# Altium schematic symbol library MANEA_TCAD_PROIECT_Schlib.SchLib: 23 symbols (part 2 of 2)
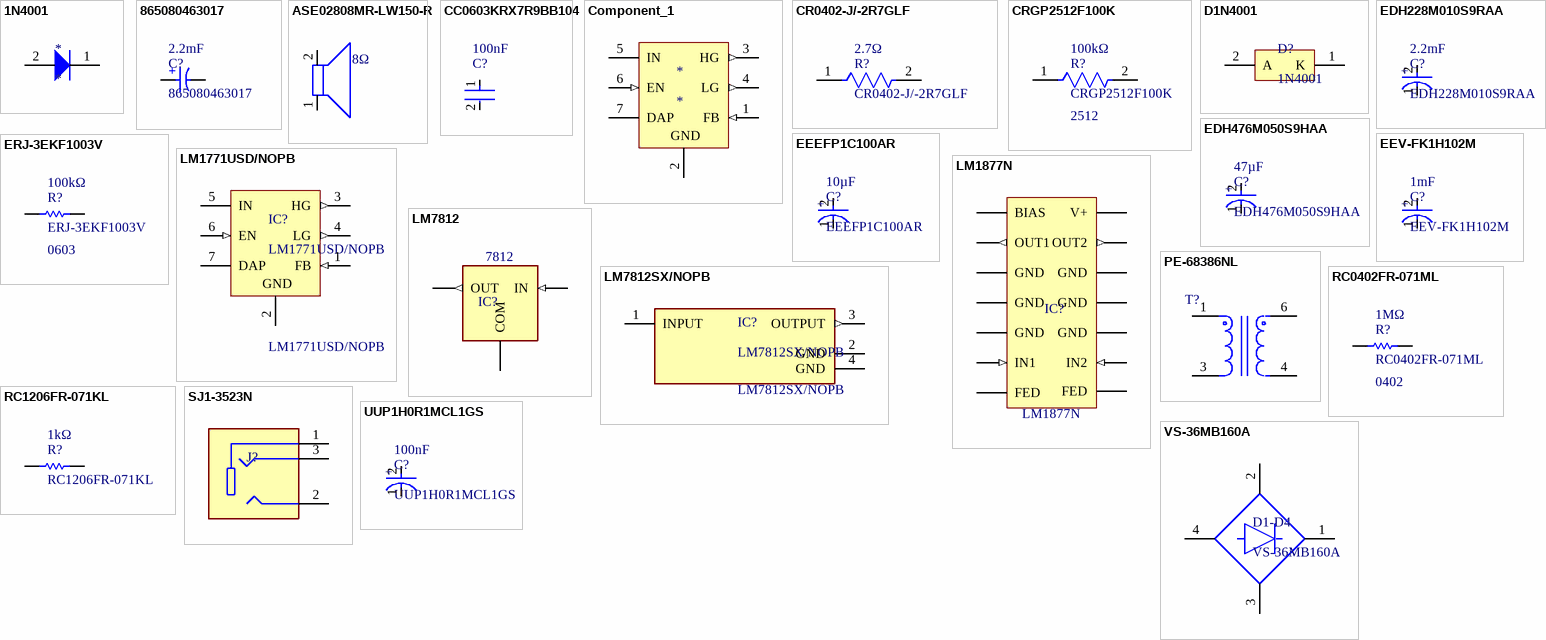
[diagram p1: symbols 1N4001 to VS-36MB160A]

## PE-68386NL
designator T?  (value not drawn)
Pulse Transformer 1: 1 1500VDC 0.6Ohm Prim. DCR 0.6Ohm Sec. DCR 6 Terminal SMD Automotive; Manufacturer: Yageo Group; DC Resistance (DCR): 600mΩ; Value: 785µH; Isolation Voltage: 1500Vrms; Number of Circuits: 1; Shielding: Unshielded; Turns Ratio: 1:1; Supplier: Farnell; Supplier Part Number: PE-68386NL; Manufacturer Part Number: PE-68386NL; RoHS: Compliant; Category: Transformers; Stock: 604; Pricing: 1=1, 10=8.84, 25=8.53, 50=7.92, 100=7.32, 500=7.16 (EUR); Case/Package: SMD/SMT; Country of Origin: Mainland China; Depth: 8.64mm; Export Control Classification Number (ECCN) Code: EAR99; Height: 2.5mm; Introduction Date: 1998-06-30; Length: 8.6mm; Lifecycle Status: Production; Max Operating Temperature: 130°C; Min Operating Temperature: -40°C; Mounting Technology: Surface Mount; Pins: 6; Radiation Hardening: No; REACH SVHC: Yes; Schedule B: 8504500000, 8504500000|8504500000, 8504500000|8504500000|8504500000, 8504500000|8504500000|8504500000|8504500000; Termination: SMD/SMT; Width: 6.7mm; ComponentLink1URL: https://datasheet.octopart.com:443/PE-68386NL-Pulse-datasheet-155502643.pdf?src-supplier=Upverter; ComponentLink1Description: https://datasheet.octopart.com:443/PE-68386NL-Pulse-datasheet-155502643.pdf?src-supplier=Upverter; ComponentLink2URL: https://datasheet.octopart.com:443/PE-68386NL-Pulse-datasheet-151940171.pdf?src-supplier=IHS; ComponentLink2Description: https://datasheet.octopart.com:443/PE-68386NL-Pulse-datasheet-151940171.pdf?src-supplier=IHS; ComponentLink3URL: https://datasheet.octopart.com:443/PE-68386NL-Pulse-datasheet-134530794.pdf?src-supplier=ODG+(Origin+Data+Global); ComponentLink3Description: https://datasheet.octopart.com:443/PE-68386NL-Pulse-datasheet-134530794.pdf?src-supplier=ODG+(Origin+Data+Global); ComponentLink4URL: https://datasheet.octopart.com:443/PE-68386NL-Pulse-datasheet-8399838.pdf?src-supplier=Factory+Futures; ComponentLink4Description: https://datasheet.octopart.com:443/PE-68386NL-Pulse-datasheet-8399838.pdf?src-supplier=Factory+Futures; ComponentLink5URL: https://datasheet.octopart.com:443/PE-68386NL-Pulse-datasheet-145346898.pdf?src-supplier=Future+Electronics; ComponentLink5Description: https://datasheet.octopart.com:443/PE-68386NL-Pulse-datasheet-145346898.pdf?src-supplier=Future+Electronics; ComponentLink6URL: http://sigma.octopart.com:80/conflict_mineral_statement/Yageo-company-3.pdf?src-supplier=Compliance+Statements; ComponentLink6Description: http://sigma.octopart.com:80/conflict_mineral_statement/Yageo-company-3.pdf?src-supplier=Compliance+Statements; ComponentLink7URL: http://sigma.octopart.com:80/rohs_statement/Yageo-company-2.pdf?src-supplier=Compliance+Statements; ComponentLink7Description: http://sigma.octopart.com:80/rohs_statement/Yageo-company-2.pdf?src-supplier=Compliance+Statements
footprint FP-PE-68386NL-MFG (Manea Transformator)
pins: 1, 3, 4, 6

## RC0402FR-071ML
designator R?  value 1MΩ  Case/Package: 0402
Res Thick Film 0402 1M Ohm 1% 0.063W(1/16W) ±100ppm/C Pad SMD T/R; Manufacturer: Yageo Group; Power Dissipation: 62.5mW; Power Rating: 63mW; Temperature Coefficient: 100ppm/°C; Voltage Rating: 50V; Supplier: Farnell; Manufacturer Part Number: RC0402FR-071ML; RoHS: Compliant; Category: Chip SMD Resistors; Stock: 1403147; Pricing: 10=10, 100=0.010, 500=0.010, 2500=0.010, 5000=0.010, 10000=0.010 (EUR); Case Code (Imperial): 0402; Case Code (Metric): 0402; China RoHS: Non-Compliant; Composition: Thick Film; Country of Origin: Mainland China, Taiwan; Depth: 500µm; Export Control Classification Number (ECCN) Code: EAR99; Height: 350µm; Harmonized Tariff Schedule (HTS) Code: 8533.21.00.30; Introduction Date: 2004-10-04; Lead Free: Lead Free; Length: 1mm; Lifecycle Status: Production; Max Operating Temperature: 155°C; Military Standard: Not; Min Operating Temperature: -55°C; Mounting Technology: Surface Mount; Pins: 2; Number of Terminals: 2; Packaging: Tape & Reel; REACH SVHC: Yes; Schedule B: 8533210045, 8533210045|8533210045|8533210045|8533210045|8533210045|8533210045|8533210045|8533210045|8533210045|8533210045|8533210045|8533210045|8533210045|8533210045|8533210045|8533210045|8533210045|8533210045|8533210045|8533210045|8533210045|8533210045|8533210045|85; Termination: SMD/SMT; Tolerance: 1%; Voltage Rating (AC): 50V; Voltage Rating (DC): 50V; Width: 500µm; Working Voltage: 50V; ComponentLink1URL: https://datasheet.octopart.com:443/RC0402FR-071ML-Yageo-datasheet-175887523.pdf?src-supplier=Newark; ComponentLink1Description: https://datasheet.octopart.com:443/RC0402FR-071ML-Yageo-datasheet-175887523.pdf?src-supplier=Newark; ComponentLink2URL: https://datasheet.octopart.com:443/RC0402FR-071ML-Yageo-Group-datasheet-190305687.pdf?src-supplier=Newark; ComponentLink2Description: https://datasheet.octopart.com:443/RC0402FR-071ML-Yageo-Group-datasheet-190305687.pdf?src-supplier=Newark; ComponentLink3URL: https://datasheet.octopart.com:443/RC0402FR-071ML-Yageo-datasheet-8324527.pdf?src-supplier=Newark; ComponentLink3Description: https://datasheet.octopart.com:443/RC0402FR-071ML-Yageo-datasheet-8324527.pdf?src-supplier=Newark; ComponentLink4URL: https://datasheet.octopart.com:443/RC0402FR-071ML-Yageo-datasheet-12531192.pdf?src-supplier=Newark; ComponentLink4Description: https://datasheet.octopart.com:443/RC0402FR-071ML-Yageo-datasheet-12531192.pdf?src-supplier=Newark; ComponentLink5URL: https://datasheet.octopart.com:443/RC0402FR-071ML-Yageo-datasheet-141265859.pdf?src-supplier=Newark; ComponentLink5Description: https://datasheet.octopart.com:443/RC0402FR-071ML-Yageo-datasheet-141265859.pdf?src-supplier=Newark; ComponentLink6URL: https://datasheet.octopart.com:443/RC0402FR-071ML-Yageo-datasheet-103092701.pdf?src-supplier=Upverter; ComponentLink6Description: https://datasheet.octopart.com:443/RC0402FR-071ML-Yageo-datasheet-103092701.pdf?src-supplier=Upverter; ComponentLink7URL: https://datasheet.octopart.com:443/RC0402FR-071ML-Yageo---Phycomp-datasheet-98239111.pdf?src-supplier=Upverter; ComponentLink7Description: https://datasheet.octopart.com:443/RC0402FR-071ML-Yageo---Phycomp-datasheet-98239111.pdf?src-supplier=Upverter; ComponentLink8URL: https://datasheet.octopart.com:443/RC0402FR-071ML-Yageo-datasheet-10408619.pdf?src-supplier=element14+APAC; ComponentLink8Description: https://datasheet.octopart.com:443/RC0402FR-071ML-Yageo-datasheet-10408619.pdf?src-supplier=element14+APAC; ComponentLink9URL: https://datasheet.octopart.com:443/RC0402FR-071ML-Yageo-datasheet-62067350.pdf?src-supplier=Farnell; ComponentLink9Description: https://datasheet.octopart.com:443/RC0402FR-071ML-Yageo-datasheet-62067350.pdf?src-supplier=Farnell; ComponentLink10URL: https://datasheet.octopart.com:443/RC0402FR-071ML-Yageo-datasheet-8329306.pdf?src-supplier=element14; ComponentLink10Description: https://datasheet.octopart.com:443/RC0402FR-071ML-Yageo-datasheet-8329306.pdf?src-supplier=element14; ComponentLink11URL: https://datasheet.octopart.com:443/RC0402FR-071ML-Yageo-Group-datasheet-176638170.pdf?src-supplier=Future+Electronics; ComponentLink11Description: https://datasheet.octopart.com:443/RC0402FR-071ML-Yageo-Group-datasheet-176638170.pdf?src-supplier=Future+Electronics; ComponentLink12URL: https://datasheet.octopart.com:443/RC0402FR-071ML-Yageo-datasheet-164759695.pdf?src-supplier=Future+Electronics; ComponentLink12Description: https://datasheet.octopart.com:443/RC0402FR-071ML-Yageo-datasheet-164759695.pdf?src-supplier=Future+Electronics; ComponentLink13URL: https://datasheet.octopart.com:443/RC0402FR-071ML-Yageo-datasheet-137700087.pdf?src-supplier=Future+Electronics; ComponentLink13Description: https://datasheet.octopart.com:443/RC0402FR-071ML-Yageo-datasheet-137700087.pdf?src-supplier=Future+Electronics; ComponentLink14URL: https://datasheet.octopart.com:443/RC0402FR-071ML-Yageo-datasheet-8324255.pdf?src-supplier=Future+Electronics; ComponentLink14Description: https://datasheet.octopart.com:443/RC0402FR-071ML-Yageo-datasheet-8324255.pdf?src-supplier=Future+Electronics; ComponentLink15URL: https://datasheet.octopart.com:443/RC0402FR-071ML-Yageo-datasheet-175423674.pdf?src-supplier=SOS+electronic; ComponentLink15Description: https://datasheet.octopart.com:443/RC0402FR-071ML-Yageo-datasheet-175423674.pdf?src-supplier=SOS+electronic; ComponentLink16URL: https://datasheet.octopart.com:443/RC0402FR-071ML-Yageo-datasheet-148775077.pdf?src-supplier=TME; ComponentLink16Description: https://datasheet.octopart.com:443/RC0402FR-071ML-Yageo-datasheet-148775077.pdf?src-supplier=TME; ComponentLink17URL: https://datasheet.octopart.com/RC0402FR-071ML-Yageo-datasheet-73766026.pdf; ComponentLink17Description: https://datasheet.octopart.com/RC0402FR-071ML-Yageo-datasheet-73766026.pdf; ComponentLink18URL: http://sigma.octopart.com:80/conflict_mineral_statement/Yageo-company-3.pdf?src-supplier=Compliance+Statements; ComponentLink18Description: http://sigma.octopart.com:80/conflict_mineral_statement/Yageo-company-3.pdf?src-supplier=Compliance+Statements; ComponentLink19URL: http://sigma.octopart.com:80/rohs_statement/Yageo-company-2.pdf?src-supplier=Compliance+Statements; ComponentLink19Description: http://sigma.octopart.com:80/rohs_statement/Yageo-company-2.pdf?src-supplier=Compliance+Statements; Supplier Part Number: RC0402FR-071ML
footprint RESC1005X40X25NL05T10 (Manea - Resistor 1MΩ (mid) Chip Resistor, 2-Leads, Body 1.00x0.50mm, IPC Medium Density)
footprint RESC1005X40X25ML05T10 (Manea - Resistor 1MΩ (small) Chip Resistor, 2-Leads, Body 1.00x0.50mm, IPC Low Density)
footprint RESC1005X40X25LL05T10 (Manea - Resistor 1MΩ (big) Chip Resistor, 2-Leads, Body 1.00x0.50mm, IPC High Density)
pins: 1, 2

## RC1206FR-071KL
designator R?  value 1kΩ
250mW Thick Film Resistors 200V ±100ppm/℃ ±1% 1kΩ 1206 Chip Resistor - Surface Mount ROHS; Manufacturer: Yageo Group; Temperature Coefficient: 100ppm/°C; Supplier: Farnell; Supplier Part Number: RC1206FR-071KL; Manufacturer Part Number: RC1206FR-071KL; RoHS: Compliant; Category: Chip SMD Resistors; Stock: 132012; Pricing: 500=500, 1000=0.05, 2500=0.05 (EUR); Case/Package: 1206; Case Code (Imperial): 1206; Case Code (Metric): 3216; China RoHS: Non-Compliant; Composition: Thick Film; Country of Origin: Mainland China, Taiwan; Depth: 1.6mm; Export Control Classification Number (ECCN) Code: EAR99; Height: 550µm; Harmonized Tariff Schedule (HTS) Code: 8533.21.00.30; Introduction Date: 2008-07-18; Lead Free: Lead Free; Length: 3.1mm; Lifecycle Status: Production; Max Operating Temperature: 155°C; Military Standard: Not; Min Operating Temperature: -55°C; Mounting Technology: Surface Mount; Pins: 2; Number of Terminals: 2; Packaging: Tape & Reel; Power Dissipation: 250mW; Power Rating: 250mW; REACH SVHC: Yes; Schedule B: 8533210045, 8533210045|8533210045, 8533210045|8533210045|8533210045, 8533210045|8533210045|8533210045|8533210045; Termination: SMD/SMT; Tolerance: 1%; Voltage Rating: 200V; Voltage Rating (AC): 200V; Voltage Rating (DC): 200V; Width: 1.6mm; Working Voltage: 200V; ComponentLink1URL: https://datasheet.octopart.com:443/RC1206FR-071KL-Yageo-datasheet-175887523.pdf?src-supplier=Newark; ComponentLink1Description: https://datasheet.octopart.com:443/RC1206FR-071KL-Yageo-datasheet-175887523.pdf?src-supplier=Newark; ComponentLink2URL: https://datasheet.octopart.com:443/RC1206FR-071KL-Yageo-datasheet-103092701.pdf?src-supplier=Upverter; ComponentLink2Description: https://datasheet.octopart.com:443/RC1206FR-071KL-Yageo-datasheet-103092701.pdf?src-supplier=Upverter; ComponentLink3URL: https://datasheet.octopart.com:443/RC1206FR-071KL-Yageo-datasheet-98239111.pdf?src-supplier=Upverter; ComponentLink3Description: https://datasheet.octopart.com:443/RC1206FR-071KL-Yageo-datasheet-98239111.pdf?src-supplier=Upverter; ComponentLink4URL: https://datasheet.octopart.com:443/RC1206FR-071KL-Yageo-datasheet-8359522.pdf?src-supplier=element14+APAC; ComponentLink4Description: https://datasheet.octopart.com:443/RC1206FR-071KL-Yageo-datasheet-8359522.pdf?src-supplier=element14+APAC; ComponentLink5URL: https://datasheet.octopart.com:443/RC1206FR-071KL-Yageo-datasheet-13032847.pdf?src-supplier=element14+APAC; ComponentLink5Description: https://datasheet.octopart.com:443/RC1206FR-071KL-Yageo-datasheet-13032847.pdf?src-supplier=element14+APAC; ComponentLink6URL: https://datasheet.octopart.com:443/RC1206FR-071KL-Yageo-datasheet-62067350.pdf?src-supplier=Farnell; ComponentLink6Description: https://datasheet.octopart.com:443/RC1206FR-071KL-Yageo-datasheet-62067350.pdf?src-supplier=Farnell; ComponentLink7URL: https://datasheet.octopart.com:443/RC1206FR-071KL-Yageo-Group-datasheet-176638170.pdf?src-supplier=Future+Electronics; ComponentLink7Description: https://datasheet.octopart.com:443/RC1206FR-071KL-Yageo-Group-datasheet-176638170.pdf?src-supplier=Future+Electronics; ComponentLink8URL: https://datasheet.octopart.com:443/RC1206FR-071KL-Yageo-datasheet-164759695.pdf?src-supplier=Future+Electronics; ComponentLink8Description: https://datasheet.octopart.com:443/RC1206FR-071KL-Yageo-datasheet-164759695.pdf?src-supplier=Future+Electronics; ComponentLink9URL: https://datasheet.octopart.com:443/RC1206FR-071KL-Yageo-datasheet-137700087.pdf?src-supplier=Future+Electronics; ComponentLink9Description: https://datasheet.octopart.com:443/RC1206FR-071KL-Yageo-datasheet-137700087.pdf?src-supplier=Future+Electronics; ComponentLink10URL: https://datasheet.octopart.com:443/RC1206FR-071KL-Yageo-datasheet-27233761.pdf?src-supplier=Future+Electronics; ComponentLink10Description: https://datasheet.octopart.com:443/RC1206FR-071KL-Yageo-datasheet-27233761.pdf?src-supplier=Future+Electronics; ComponentLink11URL: https://datasheet.octopart.com:443/RC1206FR-071KL-Yageo-datasheet-8324387.pdf?src-supplier=Future+Electronics; ComponentLink11Description: https://datasheet.octopart.com:443/RC1206FR-071KL-Yageo-datasheet-8324387.pdf?src-supplier=Future+Electronics; ComponentLink12URL: https://datasheet.octopart.com:443/RC1206FR-071KL-Yageo-datasheet-79472498.pdf?src-supplier=Megastar; ComponentLink12Description: https://datasheet.octopart.com:443/RC1206FR-071KL-Yageo-datasheet-79472498.pdf?src-supplier=Megastar; ComponentLink13URL: https://datasheet.octopart.com/RC1206FR-071KL-Yageo-datasheet-73766026.pdf; ComponentLink13Description: https://datasheet.octopart.com/RC1206FR-071KL-Yageo-datasheet-73766026.pdf; ComponentLink14URL: https://datasheet.octopart.com:443/RC1206FR-071KL-Yageo-datasheet-118639.pdf?src-supplier=DigiKey; ComponentLink14Description: https://datasheet.octopart.com:443/RC1206FR-071KL-Yageo-datasheet-118639.pdf?src-supplier=DigiKey; ComponentLink15URL: http://sigma.octopart.com:80/conflict_mineral_statement/Yageo-company-3.pdf?src-supplier=Compliance+Statements; ComponentLink15Description: http://sigma.octopart.com:80/conflict_mineral_statement/Yageo-company-3.pdf?src-supplier=Compliance+Statements; ComponentLink16URL: http://sigma.octopart.com:80/rohs_statement/Yageo-company-2.pdf?src-supplier=Compliance+Statements; ComponentLink16Description: http://sigma.octopart.com:80/rohs_statement/Yageo-company-2.pdf?src-supplier=Compliance+Statements
footprint RESC3116X65X40NL10T20 (Manea - Resistor 1kΩ (mid) Chip Resistor, 2-Leads, Body 3.10x1.60mm, IPC Medium Density)
footprint RESC3116X65X40ML10T20 (Manea - Resistor 1kΩ (small)Chip Resistor, 2-Leads, Body 3.10x1.60mm, IPC Low Density)
footprint RESC3116X65X40LL10T20 (Manea - Resistor 1kΩ (big) Chip Resistor, 2-Leads, Body 3.10x1.60mm, IPC High Density)
pins: 1, 2

## SJ1-3523N
designator J?  (value not drawn)
3.5 mm, Stereo, Right Angle, Through Hole, Audio Jack Connector; Manufacturer: Same Sky; Contact Resistance: 50mΩ; Current Rating: 1A; Insulation Resistance: 100MΩ; Number of Conductors: 3; Number of Ports: 1; Operating Force: 29.42N; Shielding: Unshielded; Voltage Rating: 12V; Supplier: Arrow Electronics; Supplier Part Number: SJ1-3523N; Manufacturer Part Number: SJ1-3523N; RoHS: Compliant; Category: Audio / Video Connectors; Stock: 4186; Pricing: 186=0.5385, 280=0.5263, 560=0.521, 1120=0.5158, 2520=0.5106 (USD); Contact Gender: Female; Export Control Classification Number (ECCN) Code: EAR99; Harmonized Tariff Schedule (HTS) Code: 8536.69.40.10; Introduction Date: 2013-12-05; Lifecycle Status: Production; Max Operating Temperature: 85°C; Min Operating Temperature: -25°C; Mounting Technology: Through Hole; Pins: 3; Number of Poles: 3; REACH SVHC: Yes; Shell Finish: Nickel; Shell Material: Brass; ComponentLink1URL: https://datasheet.octopart.com:443/SJ1-3523N-Same-Sky-datasheet-188842965.pdf?src-supplier=Same+Sky; ComponentLink1Description: https://datasheet.octopart.com:443/SJ1-3523N-Same-Sky-datasheet-188842965.pdf?src-supplier=Same+Sky; ComponentLink2URL: https://datasheet.octopart.com:443/SJ1-3523N-Same-Sky-datasheet-181919365.pdf?src-supplier=Same+Sky; ComponentLink2Description: https://datasheet.octopart.com:443/SJ1-3523N-Same-Sky-datasheet-181919365.pdf?src-supplier=Same+Sky; ComponentLink3URL: https://datasheet.octopart.com:443/SJ1-3523N-Same-Sky-datasheet-181919366.pdf?src-supplier=Same+Sky; ComponentLink3Description: https://datasheet.octopart.com:443/SJ1-3523N-Same-Sky-datasheet-181919366.pdf?src-supplier=Same+Sky; ComponentLink4URL: https://datasheet.octopart.com:443/SJ1-3523N-CUI-Devices-datasheet-175925037.pdf?src-supplier=Same+Sky; ComponentLink4Description: https://datasheet.octopart.com:443/SJ1-3523N-CUI-Devices-datasheet-175925037.pdf?src-supplier=Same+Sky; ComponentLink5URL: https://datasheet.octopart.com:443/SJ1-3523N-CUI-Devices-datasheet-137944680.pdf?src-supplier=Same+Sky; ComponentLink5Description: https://datasheet.octopart.com:443/SJ1-3523N-CUI-Devices-datasheet-137944680.pdf?src-supplier=Same+Sky; ComponentLink6URL: https://datasheet.octopart.com:443/SJ1-3523N-CUI-Devices-datasheet-180438157.pdf?src-supplier=IHS; ComponentLink6Description: https://datasheet.octopart.com:443/SJ1-3523N-CUI-Devices-datasheet-180438157.pdf?src-supplier=IHS; ComponentLink7URL: https://datasheet.octopart.com:443/SJ1-3523N-Same-Sky-datasheet-190142061.pdf?src-supplier=element14+APAC; ComponentLink7Description: https://datasheet.octopart.com:443/SJ1-3523N-Same-Sky-datasheet-190142061.pdf?src-supplier=element14+APAC; ComponentLink8URL: https://datasheet.octopart.com:443/SJ1-3523N-Same-Sky-datasheet-182881325.pdf?src-supplier=Electro+Sonic; ComponentLink8Description: https://datasheet.octopart.com:443/SJ1-3523N-Same-Sky-datasheet-182881325.pdf?src-supplier=Electro+Sonic; ComponentLink9URL: https://datasheet.octopart.com:443/SJ1-3523N-CUI-Devices-datasheet-103114031.pdf?src-supplier=Master+Electronics; ComponentLink9Description: https://datasheet.octopart.com:443/SJ1-3523N-CUI-Devices-datasheet-103114031.pdf?src-supplier=Master+Electronics; ComponentLink10URL: https://datasheet.octopart.com:443/SJ1-3523N-Same-Sky-datasheet-189105612.pdf?src-supplier=Master+Electronics; ComponentLink10Description: https://datasheet.octopart.com:443/SJ1-3523N-Same-Sky-datasheet-189105612.pdf?src-supplier=Master+Electronics; ComponentLink11URL: https://datasheet.octopart.com:443/SJ1-3523N-Same-Sky-datasheet-182050170.pdf?src-supplier=Future+Electronics; ComponentLink11Description: https://datasheet.octopart.com:443/SJ1-3523N-Same-Sky-datasheet-182050170.pdf?src-supplier=Future+Electronics; ComponentLink12URL: https://datasheet.octopart.com:443/SJ1-3523N-CUI-Devices-datasheet-179174321.pdf?src-supplier=Future+Electronics; ComponentLink12Description: https://datasheet.octopart.com:443/SJ1-3523N-CUI-Devices-datasheet-179174321.pdf?src-supplier=Future+Electronics; ComponentLink13URL: https://datasheet.octopart.com:443/SJ1-3523N-CUI-Devices-datasheet-175923655.pdf?src-supplier=Future+Electronics; ComponentLink13Description: https://datasheet.octopart.com:443/SJ1-3523N-CUI-Devices-datasheet-175923655.pdf?src-supplier=Future+Electronics; ComponentLink14URL: https://datasheet.octopart.com:443/SJ1-3523N-CUI-Devices-datasheet-137916565.pdf?src-supplier=Future+Electronics; ComponentLink14Description: https://datasheet.octopart.com:443/SJ1-3523N-CUI-Devices-datasheet-137916565.pdf?src-supplier=Future+Electronics; ComponentLink15URL: https://datasheet.octopart.com:443/SJ1-3523N-CUI-Devices-datasheet-175927865.pdf?src-supplier=CUI+Devices+SCT; ComponentLink15Description: https://datasheet.octopart.com:443/SJ1-3523N-CUI-Devices-datasheet-175927865.pdf?src-supplier=CUI+Devices+SCT; ComponentLink16URL: https://datasheet.octopart.com:443/SJ1-3523N-CUI-Devices-datasheet-142371563.pdf?src-supplier=CUI+Devices+SCT; ComponentLink16Description: https://datasheet.octopart.com:443/SJ1-3523N-CUI-Devices-datasheet-142371563.pdf?src-supplier=CUI+Devices+SCT; ComponentLink17URL: https://octopart.com:443/opatz8j6/c1?t=gjuFzP5FeJ83X9cwTGu2sEmmwJClMyKvRq31tK1ghiwMfaJiNfVooFEWA3NKcPKyVTi3TopjWN7_jVNemsgZYLBGcTysez8j3ooErhfGEpaGvYXTm46f2XKwF5AUrG3oakeW1EITrY-RgczLpEkf621pOmzGdcrBuo_fTY8P93EKEICRE_pTxQzimOUyEadwLjpAytiZue2sdnG9_08Nr5BHHxjjNOe--5RGBswLz9oJptexyQGuRjBmjD9nyt9tPx4AxWVkug0cZeRbY05jbZASdtPt6-WktcXXJ7Li33icjQZem-hXhaL2R0u0Af73md00k_u0irKwzPj4eC0junqs0zkurYeIpEBCFnbg&src-supplier=Compliance+Statements; ComponentLink17Description: https://octopart.com:443/opatz8j6/c1?t=gjuFzP5FeJ83X9cwTGu2sEmmwJClMyKvRq31tK1ghiwMfaJiNfVooFEWA3NKcPKyVTi3TopjWN7_jVNemsgZYLBGcTysez8j3ooErhfGEpaGvYXTm46f2XKwF5AUrG3oakeW1EITrY-RgczLpEkf621pOmzGdcrBuo_fTY8P93EKEICRE_pTxQzimOUyEadwLjpAytiZue2sdnG9_08Nr5BHHxjjNOe--5RGBswLz9oJptexyQGuRjBmjD9nyt9tPx4AxWVkug0cZeRbY05jbZASdtPt6-WktcXXJ7Li33icjQZem-hXhaL2R0u0Af73md00k_u0irKwzPj4eC0junqs0zkurYeIpEBCFnbg&src-supplier=Compliance+Statements; ComponentLink18URL: https://octopart.com:443/opatz8j6/c1?t=FK_WB5MEeg8e3hchiUFLufnmrXjWfPns_31GAxOxSz5XCu7Mx54RJmU8oWMVHzsQDHhVfL6sbpf8_NglWXW47YlrGWvjCIcYCwBgGax26lgPQP7ePVnUIuxTSbRF0WS-6Nsk4c6CYYrZ3tinGlSI5arQThC3cXIqlveG9Ik5qLNagbrnaAXootczi_mrI3vsNqx9WMqOLxXIFI4-vrFzhJlVucQLREwoWmYqkSPYLuQ3--heFvxW44gPWJaFS9ZBQLJofzqBGReJxXS-DgOgjl2bCuYmuX6dX4q51Wsnv4hQ3w_hAUVVOW1quancvtOtLktylFp-nv9BlBEi-vqz9ne94H7vkARog4eX&src-supplier=Compliance+Statements; ComponentLink18Description: https://octopart.com:443/opatz8j6/c1?t=FK_WB5MEeg8e3hchiUFLufnmrXjWfPns_31GAxOxSz5XCu7Mx54RJmU8oWMVHzsQDHhVfL6sbpf8_NglWXW47YlrGWvjCIcYCwBgGax26lgPQP7ePVnUIuxTSbRF0WS-6Nsk4c6CYYrZ3tinGlSI5arQThC3cXIqlveG9Ik5qLNagbrnaAXootczi_mrI3vsNqx9WMqOLxXIFI4-vrFzhJlVucQLREwoWmYqkSPYLuQ3--heFvxW44gPWJaFS9ZBQLJofzqBGReJxXS-DgOgjl2bCuYmuX6dX4q51Wsnv4hQ3w_hAUVVOW1quancvtOtLktylFp-nv9BlBEi-vqz9ne94H7vkARog4eX&src-supplier=Compliance+Statements; ComponentLink19URL: https://octopart.com:443/opatz8j6/c1?t=UdIpGBcksFMbyudDRCHU_cM4VUqfRdaD9F0GIXHSdxGioLaqUbbj5soB0Lg_i9Le1gzib9ZjKQgBK4iE-j6DgrULbk6LjM663-xmUcWGM4Ya9FvNt2cmxcyNinrQ5ZBPyY5bu4RoQeVMp19Io0LziUfQXBaMG81yX2Qgy7rm_o7yZdT82mfh7U3A6q7SJxIqB7I7ZbQfC5CabIjoAbjznbQrH1ozzyaeiQXVL_6geplWzkdIi5w2dHDvFVp-IGUN90e2klKnP2A_Ai5F6BLf3IjGe8Zjo2r6t-LDgqKHNYw3iDHugYaVHNcStOHFhZFC-2WwucY-mGkN9-fcAqr1fA9RpMNns50&src-supplier=Compliance+Statements; ComponentLink19Description: https://octopart.com:443/opatz8j6/c1?t=UdIpGBcksFMbyudDRCHU_cM4VUqfRdaD9F0GIXHSdxGioLaqUbbj5soB0Lg_i9Le1gzib9ZjKQgBK4iE-j6DgrULbk6LjM663-xmUcWGM4Ya9FvNt2cmxcyNinrQ5ZBPyY5bu4RoQeVMp19Io0LziUfQXBaMG81yX2Qgy7rm_o7yZdT82mfh7U3A6q7SJxIqB7I7ZbQfC5CabIjoAbjznbQrH1ozzyaeiQXVL_6geplWzkdIi5w2dHDvFVp-IGUN90e2klKnP2A_Ai5F6BLf3IjGe8Zjo2r6t-LDgqKHNYw3iDHugYaVHNcStOHFhZFC-2WwucY-mGkN9-fcAqr1fA9RpMNns50&src-supplier=Compliance+Statements; ComponentLink20URL: https://octopart.com:443/opatz8j6/c1?t=pDg1b1pYhpzqU392vJ_Jb3HLHPPzL0sAM5iyDHTPCetBcv_Sp1d-hJNQ556zVr5CdDNtNnZDeT9UXiVgAY5S64M-JSURvz-uorpDhlHE8t-NqIP0C6funSUuJTALTwKEJ_63uBUFx6mOoaK7PcASKHZ5FUs2Eanv8BS0GHxdibUAf2RceAXHkxwb2tLftSdnLjUq3WIVWvGyaOXA152k5sLcWrVPe37TXyhtlruGxJ-oGWaHmv_rm21DomcvISw5LsSS6OYGOZPVpG2uGYGgsGXwC0kLCw0NRQ_8r5isbCv0nrOWO727JWoEjEl5igJPqhucFWm0rj7fGTRzHNPtvFZjRbxEkRX6NoLHgIlI&src-supplier=Compliance+Statements; ComponentLink20Description: https://octopart.com:443/opatz8j6/c1?t=pDg1b1pYhpzqU392vJ_Jb3HLHPPzL0sAM5iyDHTPCetBcv_Sp1d-hJNQ556zVr5CdDNtNnZDeT9UXiVgAY5S64M-JSURvz-uorpDhlHE8t-NqIP0C6funSUuJTALTwKEJ_63uBUFx6mOoaK7PcASKHZ5FUs2Eanv8BS0GHxdibUAf2RceAXHkxwb2tLftSdnLjUq3WIVWvGyaOXA152k5sLcWrVPe37TXyhtlruGxJ-oGWaHmv_rm21DomcvISw5LsSS6OYGOZPVpG2uGYGgsGXwC0kLCw0NRQ_8r5isbCv0nrOWO727JWoEjEl5igJPqhucFWm0rj7fGTRzHNPtvFZjRbxEkRX6NoLHgIlI&src-supplier=Compliance+Statements; ComponentLink21URL: https://octopart.com:443/opatz8j6/c1?t=7vmJb-KgeebzF6ID3bFFwvqYryya2RktZyo-G2sT8rG6SRJyz16kOmaQ2ou6ab3xMPo5npRScceIiW07oDQ1f5JfhRkWb9_Y_6rCSDi_uNFhA6f9GIb9pNI00QkWPpkHkPf6vGHxDv5mUr8xCnFeDJMGnT5pJSW73Anww1ZNZ5YNBfaYDFRkWL08Fvbhf9VcmV8pSucmne1PHtxIs5zkCCqmelimsIXrz0uwMxahLOjitLj_9e_e1AOmWQ-ZYvwc17tVkBLVsZjK0aJCdNSugvk6xn_3gwZvuZo6Vqs_B5XwRxnkJ_GY4dJySkj0Gh5tVNccPYw3GObpftcvwec0lfkUKHKNdrMy6Lc8&src-supplier=Compliance+Statements; ComponentLink21Description: https://octopart.com:443/opatz8j6/c1?t=7vmJb-KgeebzF6ID3bFFwvqYryya2RktZyo-G2sT8rG6SRJyz16kOmaQ2ou6ab3xMPo5npRScceIiW07oDQ1f5JfhRkWb9_Y_6rCSDi_uNFhA6f9GIb9pNI00QkWPpkHkPf6vGHxDv5mUr8xCnFeDJMGnT5pJSW73Anww1ZNZ5YNBfaYDFRkWL08Fvbhf9VcmV8pSucmne1PHtxIs5zkCCqmelimsIXrz0uwMxahLOjitLj_9e_e1AOmWQ-ZYvwc17tVkBLVsZjK0aJCdNSugvk6xn_3gwZvuZo6Vqs_B5XwRxnkJ_GY4dJySkj0Gh5tVNccPYw3GObpftcvwec0lfkUKHKNdrMy6Lc8&src-supplier=Compliance+Statements; ComponentLink22URL: https://octopart.com:443/opatz8j6/c1?t=Un2tl9Nj9bSvzM7IKxJOdyIGf7L8C2-5kvYpunEZrdGSfiMO37fbS_I13rKkj5ham76OVsj54G2v97kMRcXuqb_kSMGoGiy93NryKqHZFqa8OCzokOfsjonKJ12Uuy0YHRmbezol8y4EjYZmx0TMFsWAPZBqPbeTctZo3-o-Br2JroDvYQTJwDskX6QIshJSBSA9uFUYc2RGP2Ytj2OZERSo9sD3NXytpuLuZ8C65mZ-vr0hF3yAnYySSV9fn-2l-pztLjEEm120s6sy5-svJ-xc3PuN0oLaUwllU_tTQMlPAaspxnvPl1Gpyn9Wz4Y_A71_fe4q9m_M4dKufVtGvRSOa7MFhcE&src-supplier=Compliance+Statements; ComponentLink22Description: https://octopart.com:443/opatz8j6/c1?t=Un2tl9Nj9bSvzM7IKxJOdyIGf7L8C2-5kvYpunEZrdGSfiMO37fbS_I13rKkj5ham76OVsj54G2v97kMRcXuqb_kSMGoGiy93NryKqHZFqa8OCzokOfsjonKJ12Uuy0YHRmbezol8y4EjYZmx0TMFsWAPZBqPbeTctZo3-o-Br2JroDvYQTJwDskX6QIshJSBSA9uFUYc2RGP2Ytj2OZERSo9sD3NXytpuLuZ8C65mZ-vr0hF3yAnYySSV9fn-2l-pztLjEEm120s6sy5-svJ-xc3PuN0oLaUwllU_tTQMlPAaspxnvPl1Gpyn9Wz4Y_A71_fe4q9m_M4dKufVtGvRSOa7MFhcE&src-supplier=Compliance+Statements
footprint CUI_SJ1-3523N (Manea - Stereo jack)
pins: 1, 2, 3

## UUP1H0R1MCL1GS
designator C?  value 100nF
Radial Can - SMD ALUMINUM ELECTROLYTIC CAPACITOR UUP 50V 0.1muF ±20% 0.157Dia 4.00mm; Manufacturer: Nichicon; Dissipation Factor: 15%; Leakage Current: 250nA; Life (Hours): 1000hours; Ripple Current: 1mA; Supplier: DigiKey; Supplier Part Number: 493-9552-1-ND; Manufacturer Part Number: UUP1H0R1MCL1GS; RoHS: Compliant; Category: Aluminum Electrolytic Capacitors; Stock: 53977; Pricing: 1=0.72, 10=0.449, 50=0.3376, 100=0.3019, 500=0.24014, 1000=0.22065 (USD); Case/Package: Radial; China RoHS: Compliant; Country of Origin: Japan; Diameter: 4mm; Export Control Classification Number (ECCN) Code: EAR99; Height: 5.8mm; Height - Seated (Max): 3.9878mm; Harmonized Tariff Schedule (HTS) Code: 8532.22.00; Introduction Date: 2004-09-15; Length: 4.3mm; Lifecycle Status: Production; Max Operating Temperature: 105°C; Min Operating Temperature: -55°C; Mounting Technology: Surface Mount; Number of Terminals: 2; Radiation Hardening: No; REACH SVHC: No; Ripple Current (AC): 1mA; Schedule B: 8532220020, 8532220020|8532220020|8532220020|8532220020|8532220020; Termination: SMD/SMT; Tolerance: 20%; Voltage Rating: 50V; Voltage Rating (DC): 50V; Width: 4.3mm; ComponentLink1URL: https://datasheet.octopart.com:443/UUP1H0R1MCL1GS-Nichicon-datasheet-169479677.pdf?src-supplier=IHS; ComponentLink1Description: https://datasheet.octopart.com:443/UUP1H0R1MCL1GS-Nichicon-datasheet-169479677.pdf?src-supplier=IHS; ComponentLink2URL: https://datasheet.octopart.com:443/UUP1H0R1MCL1GS-Nichicon-datasheet-141895065.pdf?src-supplier=Nichicon+SCT; ComponentLink2Description: https://datasheet.octopart.com:443/UUP1H0R1MCL1GS-Nichicon-datasheet-141895065.pdf?src-supplier=Nichicon+SCT; ComponentLink3URL: https://sigma.octopart.com:443/138706034/technical_drawing/Nichicon-UUP1H0R1MCL1GS.pdf?src-supplier=Upverter; ComponentLink3Description: https://sigma.octopart.com:443/138706034/technical_drawing/Nichicon-UUP1H0R1MCL1GS.pdf?src-supplier=Upverter; ComponentLink4URL: https://datasheet.octopart.com:443/UUP1H0R1MCL1GS-Nichicon-datasheet-182862066.pdf?src-supplier=Newark; ComponentLink4Description: https://datasheet.octopart.com:443/UUP1H0R1MCL1GS-Nichicon-datasheet-182862066.pdf?src-supplier=Newark; ComponentLink5URL: https://datasheet.octopart.com:443/UUP1H0R1MCL1GS-Nichicon-datasheet-21209828.pdf?src-supplier=Newark; ComponentLink5Description: https://datasheet.octopart.com:443/UUP1H0R1MCL1GS-Nichicon-datasheet-21209828.pdf?src-supplier=Newark
footprint FP-UUP1H0R1MCL1GS-MFG (Manea Cap - 100nf)
pins: 1 C, 2 A
text: +

## VS-36MB160A
designator D1-D4
Diode, Bridge Rectifier, Vr 1600V, If 35A, Pkg D-34, Vf 1.3V, VS-36MB Series; Manufacturer: Vishay; Element Configuration: Single; Max Forward Surge Current (Ifsm): 500A; Max Repetitive Reverse Voltage (Vrrm): 1.6kV; Max Surge Current: 155A; Nominal Supply Voltage: 1.13kV; Number of Elements: 4; Peak Reverse Current: 10µA; Supplier: Farnell; Supplier Part Number: VS-36MB160A; Manufacturer Part Number: VS-36MB160A; RoHS: Compliant; Category: Bridge Rectifier Diodes; Stock: 238; Pricing: 1=1, 5=55.37, 10=40.64, 50=39.37, 100=38.05, 250=37.29 (EUR); Case/Package: D; Contact Plating: Nickel; Export Control Classification Number (ECCN) Code: EAR99; Forward Current: 35A; Forward Voltage: 1.3V; Height: 9.8mm; Harmonized Tariff Schedule (HTS) Code: 8541.10.00.80; Introduction Date: 2013-10-29; Length: 28.5mm; Lifecycle Status: Production; Max Operating Temperature: 150°C; Max Output current: 35A; Min Operating Temperature: -55°C; Mounting Technology: Screw, Through Hole; Pins: 4; Number of Terminals: 4; Peak Non-Repetitive Surge Current: 500A; Radiation Hardening: No; REACH SVHC: No; Reverse Standoff Voltage: 1.6kV; Weight: 19.999993g; ComponentLink1URL: https://datasheet.octopart.com:443/VS-36MB160A-Vishay-datasheet-167934344.pdf?src-supplier=Newark; ComponentLink1Description: https://datasheet.octopart.com:443/VS-36MB160A-Vishay-datasheet-167934344.pdf?src-supplier=Newark; ComponentLink2URL: https://datasheet.octopart.com:443/VS-36MB160A-Vishay-datasheet-34179020.pdf?src-supplier=Newark; ComponentLink2Description: https://datasheet.octopart.com:443/VS-36MB160A-Vishay-datasheet-34179020.pdf?src-supplier=Newark; ComponentLink3URL: https://datasheet.octopart.com:443/VS-36MB160A-Vishay-datasheet-105827.pdf?src-supplier=Newark; ComponentLink3Description: https://datasheet.octopart.com:443/VS-36MB160A-Vishay-datasheet-105827.pdf?src-supplier=Newark; ComponentLink4URL: https://datasheet.octopart.com:443/VS-36MB160A-Vishay-datasheet-78835536.pdf?src-supplier=element14+APAC; ComponentLink4Description: https://datasheet.octopart.com:443/VS-36MB160A-Vishay-datasheet-78835536.pdf?src-supplier=element14+APAC; ComponentLink5URL: https://datasheet.octopart.com:443/VS-36MB160A-Vishay-datasheet-62319662.pdf?src-supplier=element14+APAC; ComponentLink5Description: https://datasheet.octopart.com:443/VS-36MB160A-Vishay-datasheet-62319662.pdf?src-supplier=element14+APAC; ComponentLink6URL: https://datasheet.octopart.com:443/VS-36MB160A-Vishay-datasheet-21423584.pdf?src-supplier=Farnell; ComponentLink6Description: https://datasheet.octopart.com:443/VS-36MB160A-Vishay-datasheet-21423584.pdf?src-supplier=Farnell; ComponentLink7URL: https://datasheet.octopart.com:443/VS-36MB160A-Vishay-datasheet-166790267.pdf?src-supplier=TME; ComponentLink7Description: https://datasheet.octopart.com:443/VS-36MB160A-Vishay-datasheet-166790267.pdf?src-supplier=TME; ComponentLink8URL: https://datasheet.octopart.com:443/VS-36MB160A-Vishay-datasheet-136158779.pdf?src-supplier=Future+Electronics; ComponentLink8Description: https://datasheet.octopart.com:443/VS-36MB160A-Vishay-datasheet-136158779.pdf?src-supplier=Future+Electronics; ComponentLink9URL: https://datasheet.octopart.com:443/VS-36MB160A-Vishay-datasheet-9661278.pdf?src-supplier=RS+(Formerly+Allied+Electronics); ComponentLink9Description: https://datasheet.octopart.com:443/VS-36MB160A-Vishay-datasheet-9661278.pdf?src-supplier=RS+(Formerly+Allied+Electronics); ComponentLink10URL: http://sigma.octopart.com:80/rohs_statement/Vishay-company-15.pdf?src-supplier=Compliance+Statements; ComponentLink10Description: http://sigma.octopart.com:80/rohs_statement/Vishay-company-15.pdf?src-supplier=Compliance+Statements
footprint FP-95326-MFG (Manea - Bridge Diode)
pins: 1 -, 2 1 ~, 3 2 ~, 4 +